# EAGLE library part EL7242CSZ (library Intersil_By_element14_Batch_1)
Dual Input, High Speed, Dual Channel
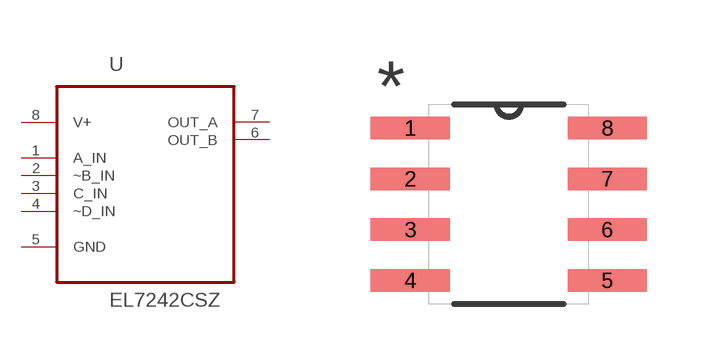
[diagram p77: symbol with the pads of SOIC127P600X175-8N; footprint SOIC127P600X175-8N]

Designator prefix U

## EL7242CSZ (MPN: EL7242CSZ; OC_FARNELL: 1561975; OC_NEWARK: 57K1477; PACKAGE: SOIC-8; SUPPLIER: INTERSIL)  [SOIC127P600X175-8N]
1  A_IN  in
2  ~B_IN  in
3  C_IN  in
4  ~D_IN  in
5  GND  pas
6  OUT_B  out
7  OUT_A  out
8  V+  pwr

## Footprint SOIC127P600X175-8N (pad centres in mm)
smd 1.981 x 0.559: 1 -2.464,1.905; 2 -2.464,0.635; 3 -2.464,-0.635; 4 -2.464,-1.905; 5 2.464,-1.905; 6 2.464,-0.635; 7 2.464,0.635; 8 2.464,1.905